# EAGLE library part ZX62-B-5PA(11) (library micro-usb)
MICRO USB Connector
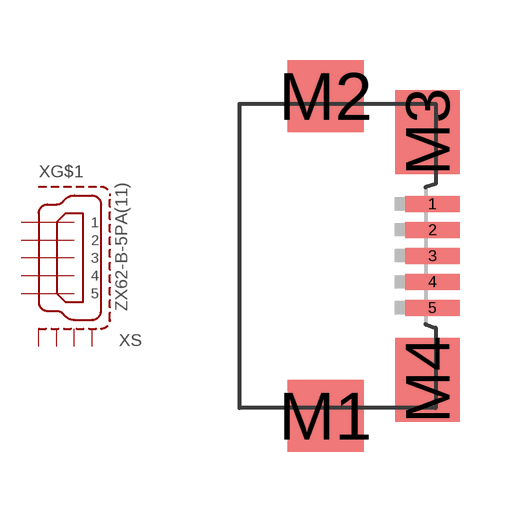
[diagram p0: symbol with the pads of ZX62-B-5PA(11); footprint ZX62-B-5PA(11)]

Designator prefix X; gates S=USB-SHIELD G$1=MICRO-USB

## ZX62-B-5PA(11)  [ZX62-B-5PA(11)]
1  G$1:1  pwr
2  G$1:2  out
3  G$1:3
4  G$1:4  pas
5  G$1:5  pwr
M1  S:S1  pas
M2  S:S2  pas
M3  S:S3  pas
M4  S:S4  pas

## Footprint ZX62-B-5PA(11) (pad centres in mm)
MINI USB Connector HI-SPEED Certified Metal Shield SMT Type Without Positioning Post Source: http://www.hirose.co.jp/cataloge_hp/e24000019.pdf
smd 1.35 x 0.4: 1 2.675,1.3; 2 2.675,0.65; 3 2.675,0; 4 2.675,-0.65; 5 2.675,-1.3
smd 1.9 x 1.8: M1 0,-4; M2 0,4
smd 1.6 x 2.1: M3 2.55,3.1; M4 2.55,-3.1